# Altium schematic symbol library Res,Pot,100k,Linear,DualGang,Thru.Schlib: 1 symbol
Pins are listed as number, name and electrical type; pins without a type are passive.

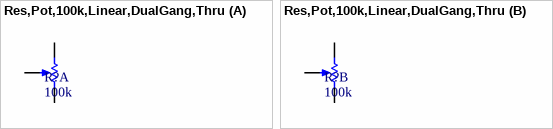
[diagram p0: symbol Res,Pot,100k,Linear,DualGang,Thru]

## Res,Pot,100k,Linear,DualGang,Thru
designator R?, comment 100k
100k Ohm 2 Gang Linear Panel Mount Potentiometer Detent 1.0 Kierros Carbon 0.125W, 1/8W PC Pins
part A pins: 1 BOT, 2 TAP, 3 TOP
part B pins: 4 BOT, 5 TAP, 6 TOP
1 alternate drawing of the same symbol